# Altium schematic symbol library ALS31313KLEATR-500.SchLib: 1 symbol
Pins are listed as number, name and electrical type; pins without a type are passive.

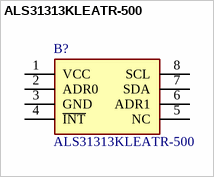
[diagram p0: symbol ALS31313KLEATR-500]

## ALS31313KLEATR-500
designator B?
Automotive 3D Linear Hall-Effect Sensor; Manufacturer_Name: Allegro Microsystems; Geometry.Height: 1.1mm; Manufacturer_Part_Number: ALS31313KLEATR-500; Mouser Part Number: 250-31313KLEATR500; Mouser Price/Stock: https://www.mouser.co.uk/ProductDetail/Allegro-MicroSystems/ALS31313KLEATR-500?qs=pUKx8fyJudA8q1d4TsW3WA%3D%3D; Arrow Part Number: ALS31313KLEATR-500; Arrow Price/Stock: https://www.arrow.com/en/products/als31313kleatr-500/allegro-microsystems; Mouser Testing Part Number: *; Mouser Testing Price/Stock: *; Datasheet Link: http://www.farnell.com/datasheets/2720004.pdf
footprint A1162LLETRT
pins: 1 VCC, 2 ADR0, 3 GND, 4 ~{INT}, 5 NC, 6 ADR1, 7 SDA, 8 SCL